# Altium footprint library OSCSC13_5P20X16X4_5-4.PcbLib: 1 footprints
Each footprint in its own frame and in the unit in brackets; x right, y up, seen from the top. Pads: shape width x height; smd on the part's side, far side on the other; paste and mask are expansions set on the pad; w line width, h text height; cw(c..) or ccw(c..) is an arc to the next point about the centre after c.
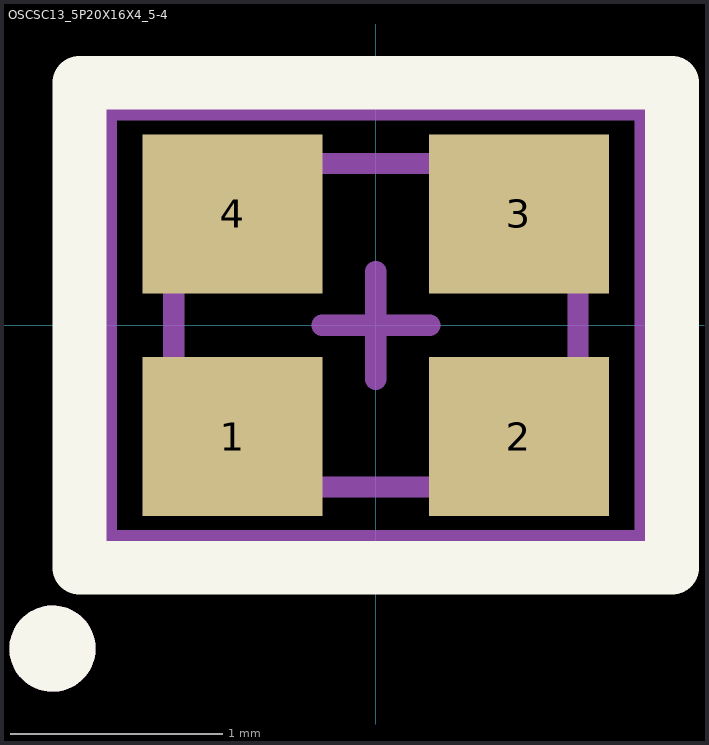
[diagram p0: the footprint, top view; thin cyan lines are the x and y axes]

## OSCSC13_5P20X16X4_5-4 [mm]
pads (4):
  rect 0.85x0.75 smd mask+0.025: 1(-0.675,-0.525) 2(0.675,-0.525) 3(0.675,0.525) 4(-0.675,0.525)
Top Overlay:
  circle w0.25: c-1.524,-1.524 r0.078
  lines w0.254: -1.397,-1.143 1.397,-1.143 1.397,1.143 -1.397,1.143 -1.397,-1.143
Mechanical 1:
  circle w0.25: c-1.524,-1.524 r0.078
  lines w0.1: -0.953,-0.762 0.953,-0.762 0.953,0.762 -0.953,0.762 -0.953,-0.762
  text ".Designator" at 0,0.113 h0.6
Mechanical 15:
  lines w0.1: -0.254,0 0.254,0 ; 0,-0.254 0,0.254 ; -1.27,-1.016 -1.27,1.016 1.27,1.016 1.27,-1.016 -1.27,-1.016
3D body "User Library-NX2016SA.STEP": height 0.46, standoff -0.01, extent -1,-0.8 1,0.8